# EAGLE library part DLARR4 (library opto)
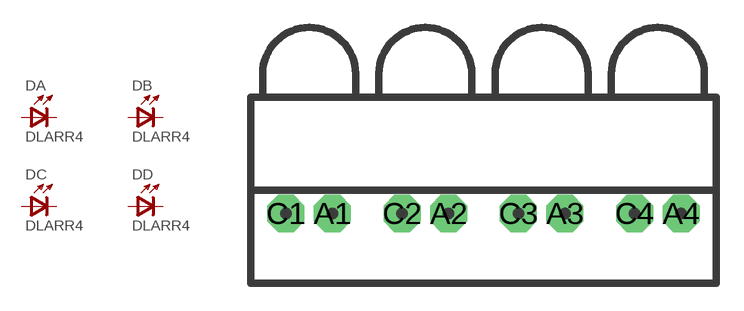
[diagram p8: symbol with the pads of DLARR4; footprint DLARR4]

Designator prefix D; gates A=DL B=DL C=DL D=DL

## DLARR4  [DLARR4]
A1  A:A  pas
A2  B:A  pas
A3  C:A  pas
A4  D:A  pas
C1  A:C  pas
C2  B:C  pas
C3  C:C  pas
C4  D:C  pas

## Footprint DLARR4 (pad centres in mm)
drill 0.813 pad 2.032 octagon: A1 2.54,0; A2 8.89,0; A3 15.24,0; A4 21.59,0; C1 0,0; C2 6.35,0; C3 12.7,0; C4 19.05,0